# EAGLE library part SMT06-1 (library radish)
PIN HEADER
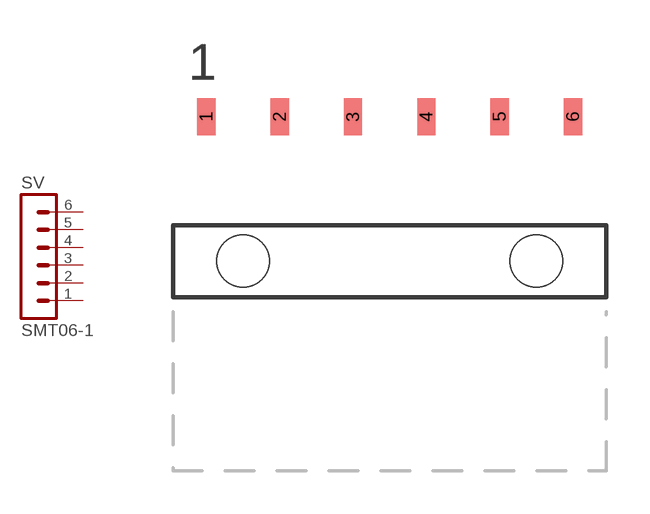
[diagram p13: symbol with the pads of SMT06-1; footprint SMT06-1]

Designator prefix SV

## SMT06-1  [SMT06-1]
1  1  pas
2  2  pas
3  3  pas
4  4  pas
5  5  pas
6  6  pas

## Footprint SMT06-1 (pad centres in mm)
PIN HEADER
smd 0.635 x 1.27: 1 -6.35,0; 2 -3.81,0; 3 -1.27,0; 4 1.27,0; 5 3.81,0; 6 6.35,0
hole 1.803 at -5.08,-4.999
hole 1.803 at 5.08,-4.999